# EAGLE library part BTM-222-SERIAL (library btm-222)
Rayson BTM-222 Bluetooth Modul Serial Pins
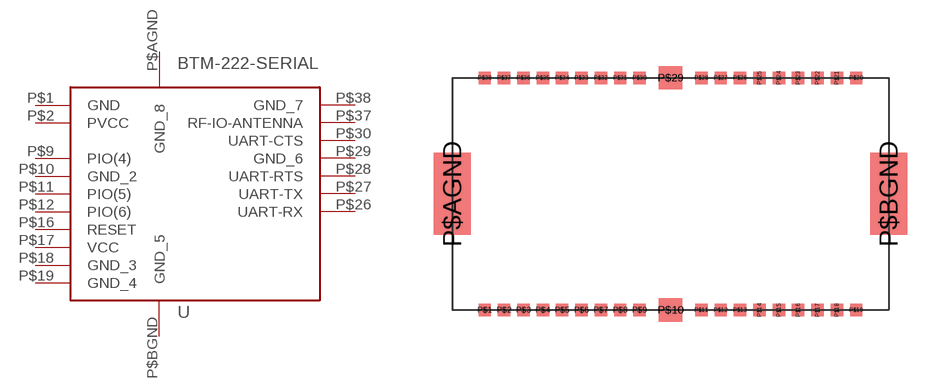
[diagram p1: symbol with the pads of BTM-222; footprint BTM-222]

Designator prefix -

## BTM-222-SERIAL  [BTM-222]
P$1  GND  pwr
P$2  PVCC  pwr
P$9  PIO(4)
P$10  GND_2  pwr
P$11  PIO(5)
P$12  PIO(6)
P$16  RESET  in
P$17  VCC  pwr
P$18  GND_3  pwr
P$19  GND_4  pwr
P$26  UART-RX  in
P$27  UART-TX  out
P$28  UART-RTS  out
P$29  GND_6  pwr
P$30  UART-CTS  in
P$37  RF-IO-ANTENNA
P$38  GND_7  pwr
P$AGND  GND_8  pwr
P$BGND  GND_5  pwr

## Footprint BTM-222 (pad centres in mm)
Rayson BTM-222 Bluetooth Modul
smd 0.8 x 0.8: P$1 -12.635,-7.5; P$2 -11.385,-7.5; P$3 -10.135,-7.5; P$4 -8.885,-7.5; P$5 -7.635,-7.5; P$6 -6.385,-7.5; P$7 -5.135,-7.5; P$8 -3.885,-7.5; P$9 -2.635,-7.5; P$11 1.365,-7.5; P$12 2.615,-7.5; P$13 3.865,-7.5; P$14 5.115,-7.5; P$15 6.365,-7.5; P$16 7.615,-7.5; P$17 8.865,-7.5; P$18 10.115,-7.5; P$19 11.365,-7.5; P$20 11.365,7.5; P$21 10.115,7.5; P$22 8.865,7.5; P$23 7.615,7.5; P$24 6.365,7.5; P$25 5.115,7.5; P$26 3.865,7.5; P$27 2.615,7.5; P$28 1.365,7.5; P$30 -2.635,7.5; P$31 -3.885,7.5; P$32 -5.135,7.5; P$33 -6.385,7.5; P$34 -7.635,7.5; P$35 -8.885,7.5; P$36 -10.135,7.5; P$37 -11.385,7.5; P$38 -12.635,7.5
smd 1.5 x 1.5: P$10 -0.635,-7.5; P$29 -0.635,7.5
smd 2.4 x 5.3: P$AGND -14.735,0; P$BGND 13.465,0